# Altium footprint library PCB-QFP-WCH-QFN80-9x9.PcbLib: 1 footprints
Each footprint in its own frame and in the unit in brackets; x right, y up, seen from the top. Pads: shape width x height; smd on the part's side, far side on the other; paste and mask are expansions set on the pad; w line width, h text height; cw(c..) or ccw(c..) is an arc to the next point about the centre after c.
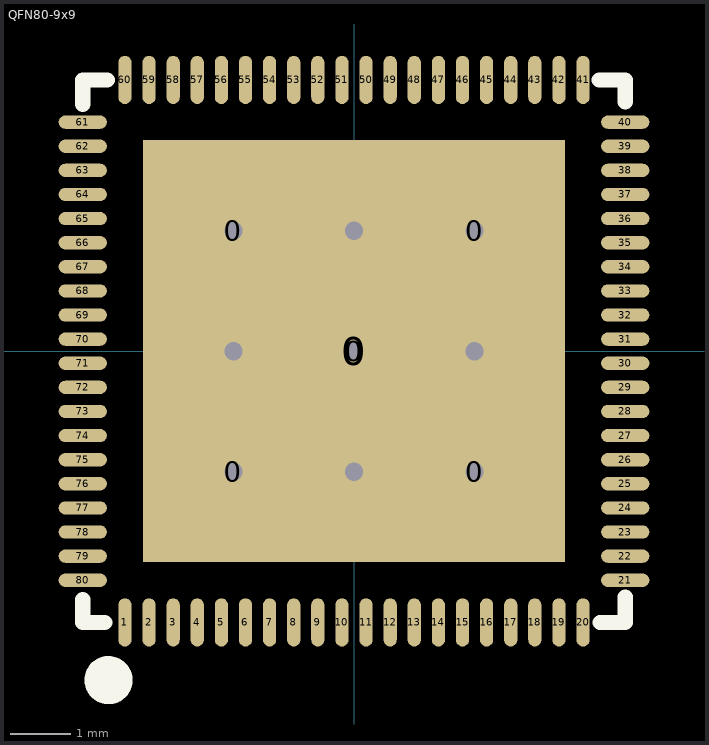
[diagram p0: the footprint, top view; thin cyan lines are the x and y axes]

## QFN80-9x9 [mm]
pads (86):
  round 0.61 hole 0.305 mask+0.051: 0(-2,-2) 0(-2,2) 0(0,0) 0(2,-2) 0(2,2)
  rect 7x7 smd mask+0.051: 0(0,0)
  oval 0.22x0.8 smd mask+0.051: 1(-3.8,-4.5) 2(-3.4,-4.5) 3(-3,-4.5) 4(-2.6,-4.5) 5(-2.2,-4.5) 6(-1.8,-4.5) 7(-1.4,-4.5) 8(-1,-4.5) 9(-0.6,-4.5) 10(-0.2,-4.5) 11(0.2,-4.5) 12(0.6,-4.5) 13(1,-4.5) 14(1.4,-4.5) 15(1.8,-4.5) 16(2.2,-4.5) 17(2.6,-4.5) 18(3,-4.5) 19(3.4,-4.5) 20(3.8,-4.5) 41(3.8,4.5) 42(3.4,4.5) 43(3,4.5) 44(2.6,4.5) 45(2.2,4.5) 46(1.8,4.5) 47(1.4,4.5) 48(1,4.5) 49(0.6,4.5) 50(0.2,4.5) 51(-0.2,4.5) 52(-0.6,4.5) 53(-1,4.5) 54(-1.4,4.5) 55(-1.8,4.5) 56(-2.2,4.5) 57(-2.6,4.5) 58(-3,4.5) 59(-3.4,4.5) 60(-3.8,4.5)
  oval 0.8x0.22 smd mask+0.051: 21(4.5,-3.8) 22(4.5,-3.4) 23(4.5,-3) 24(4.5,-2.6) 25(4.5,-2.2) 26(4.5,-1.8) 27(4.5,-1.4) 28(4.5,-1) 29(4.5,-0.6) 30(4.5,-0.2) 31(4.5,0.2) 32(4.5,0.6) 33(4.5,1) 34(4.5,1.4) 35(4.5,1.8) 36(4.5,2.2) 37(4.5,2.6) 38(4.5,3) 39(4.5,3.4) 40(4.5,3.8) 61(-4.5,3.8) 62(-4.5,3.4) 63(-4.5,3) 64(-4.5,2.6) 65(-4.5,2.2) 66(-4.5,1.8) 67(-4.5,1.4) 68(-4.5,1) 69(-4.5,0.6) 70(-4.5,0.2) 71(-4.5,-0.2) 72(-4.5,-0.6) 73(-4.5,-1) 74(-4.5,-1.4) 75(-4.5,-1.8) 76(-4.5,-2.2) 77(-4.5,-2.6) 78(-4.5,-3) 79(-4.5,-3.4) 80(-4.5,-3.8)
via 0,2 diameter 0.61 hole 0.305
via 2,0 diameter 0.61 hole 0.305
via 0,-2 diameter 0.61 hole 0.305
via -2,0 diameter 0.61 hole 0.305
Top Overlay:
  circle w0.4: c-4.073,-5.457 r0.2
  lines w0.254: -4.5,-4.121 -4.5,-4.5 -4.135,-4.5 ; -4.5,4.095 -4.5,4.5 -4.095,4.5 ; 4.069,4.5 4.5,4.5 4.5,4.137 ; 4.082,-4.5 4.5,-4.5 4.5,-4.079